# EAGLE library part 1814650 (library RoboJackets-Connectors)
Description: SSL Connector 4 Position Receptacle, Poke-In Wire Board to Cable/Wire 0.098" (2.50mm) Solder Link: Digi-Key <https://www.digikey.com/product-detail/en/phoenix-contact/1814650/277-10064-1-ND/4738862>
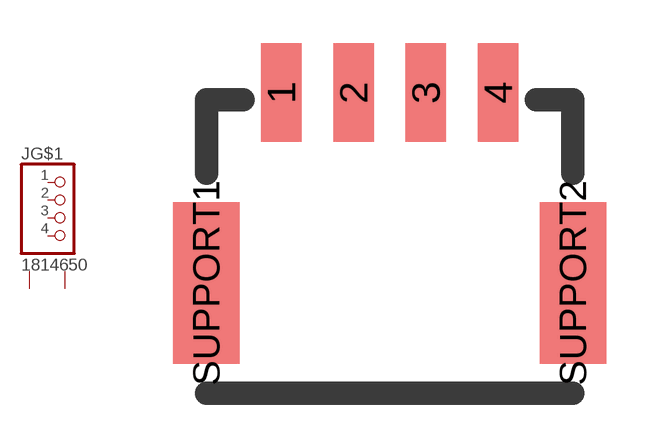
[diagram p5: symbol with the pads of 1814650; footprint 1814650]

Designator prefix J; gates G$2=LEGS G$1=PINHD4

## 1814650 (DKPN: 277-10064-1-ND)  [1814650]
1  G$1:1  pas
2  G$1:2  pas
3  G$1:3  pas
4  G$1:4  pas
SUPPORT1  G$2:LEG1  pas
SUPPORT2  G$2:LEG2  pas

## Footprint 1814650 (pad centres in mm)
smd 1.4 x 3.4: 1 -3.75,6.6; 2 -1.25,6.6; 3 1.25,6.6; 4 3.75,6.6
smd 2.3 x 5.6: SUPPORT1 -6.35,0; SUPPORT2 6.35,0